# Altium integrated library Transistor.IntLib: 14 symbols
Pins are listed as number, name and electrical type; pins without a type are passive.

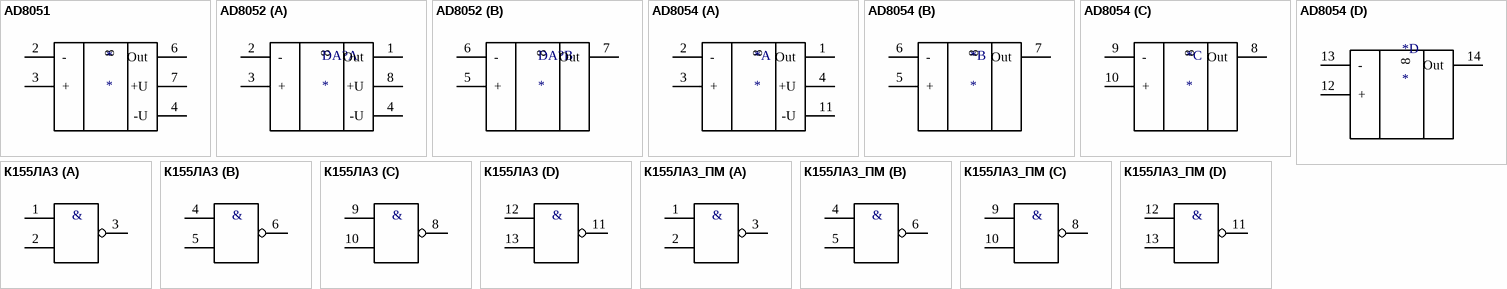
[diagram p0: symbols AD8051 to К155ЛА3_ПМ]

## AD8051
designator *
pins: 2 -, 3 +, 4 -U, 6 Out, 7 +U, 8 NC hidden to NC

## AD8052
designator DA?
part A pins: 1 Out, 2 -, 3 +, 4 -U, 8 +U
part B pins: 5 +, 6 -, 7 Out

## AD8054
designator *
part A pins: 1 Out, 2 -, 3 +, 4 +U, 11 -U
part B pins: 5 +, 6 -, 7 Out
part C pins: 8 Out, 9 -, 10 +
part D pins: 12 +, 13 -, 14 Out

## К155ЛА3
designator ?
pins on every part: 7 GND (power) hidden to GND, 14 +5V (power) hidden to +5V
part A pins: 1, 2, 3
part B pins: 4, 5, 6
part C pins: 8, 9, 10
part D pins: 11, 12, 13
part A text: &
part B text: &
part C text: &
part D text: &

## К155ЛА3_ПМ
designator ?
footprint К155ЛА3
pins on every part: 7 GND (power) hidden to GND, 14 +5V (power) hidden to +5V
part A pins: 1, 2, 3
part B pins: 4, 5, 6
part C pins: 8, 9, 10
part D pins: 11, 12, 13
part A text: &
part B text: &
part C text: &
part D text: &


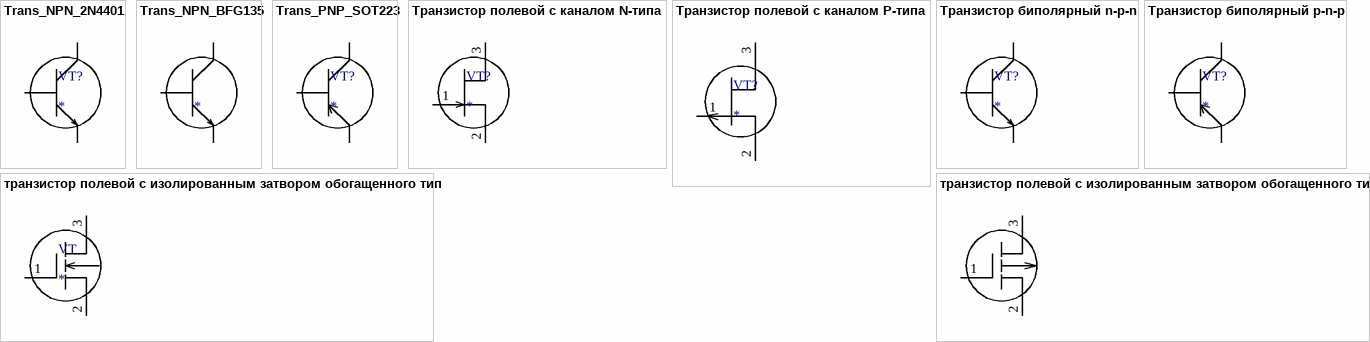
[diagram p1: symbols Trans_NPN_2N4401 to транзистор полевой с изолированным затвором обогащенного типа с Pканалом]

## Trans_NPN_2N4401
designator VT?
footprint 2N4401
pins: 1 коллектор, 1,3 эмитер, 2 база

## Trans_NPN_BFG135
designator ?
footprint BFG135
pins: 1 коллектор, 2 база, 3 эмитер

## Trans_PNP_SOT223
designator VT?
footprint SOT223
pins: 1 база, 2 эмитер, 3 коллектор

## Tранзистор полевой с каналом N-типа
designator VT?
pins: 1, 2, 3

## Tранзистор полевой с каналом P-типа
designator VT?
footprint SOT223
pins: 1, 2, 3

## Транзистор биполярный n-p-n
designator VT?
pins: 1 коллектор, 2 база, 3 эмитер

## Транзистор биполярный p-n-p
designator VT?
pins: 1 база, 2 эмитер, 3 коллектор

## транзистор полевой с изолированным затвором обогащенного типа с Nканалом
designator VT
pins: 1, 2, 3

## транзистор полевой с изолированным затвором обогащенного типа с Pканалом
designator VT  (value not drawn)
pins: 1, 2, 3